# Altium footprint library PcbLib1.PcbLib: 10 footprints
Each footprint in its own frame and in the unit in brackets; x right, y up, seen from the top. Pads: shape width x height; smd on the part's side, far side on the other; paste and mask are expansions set on the pad; w line width, h text height; cw(c..) or ccw(c..) is an arc to the next point about the centre after c.
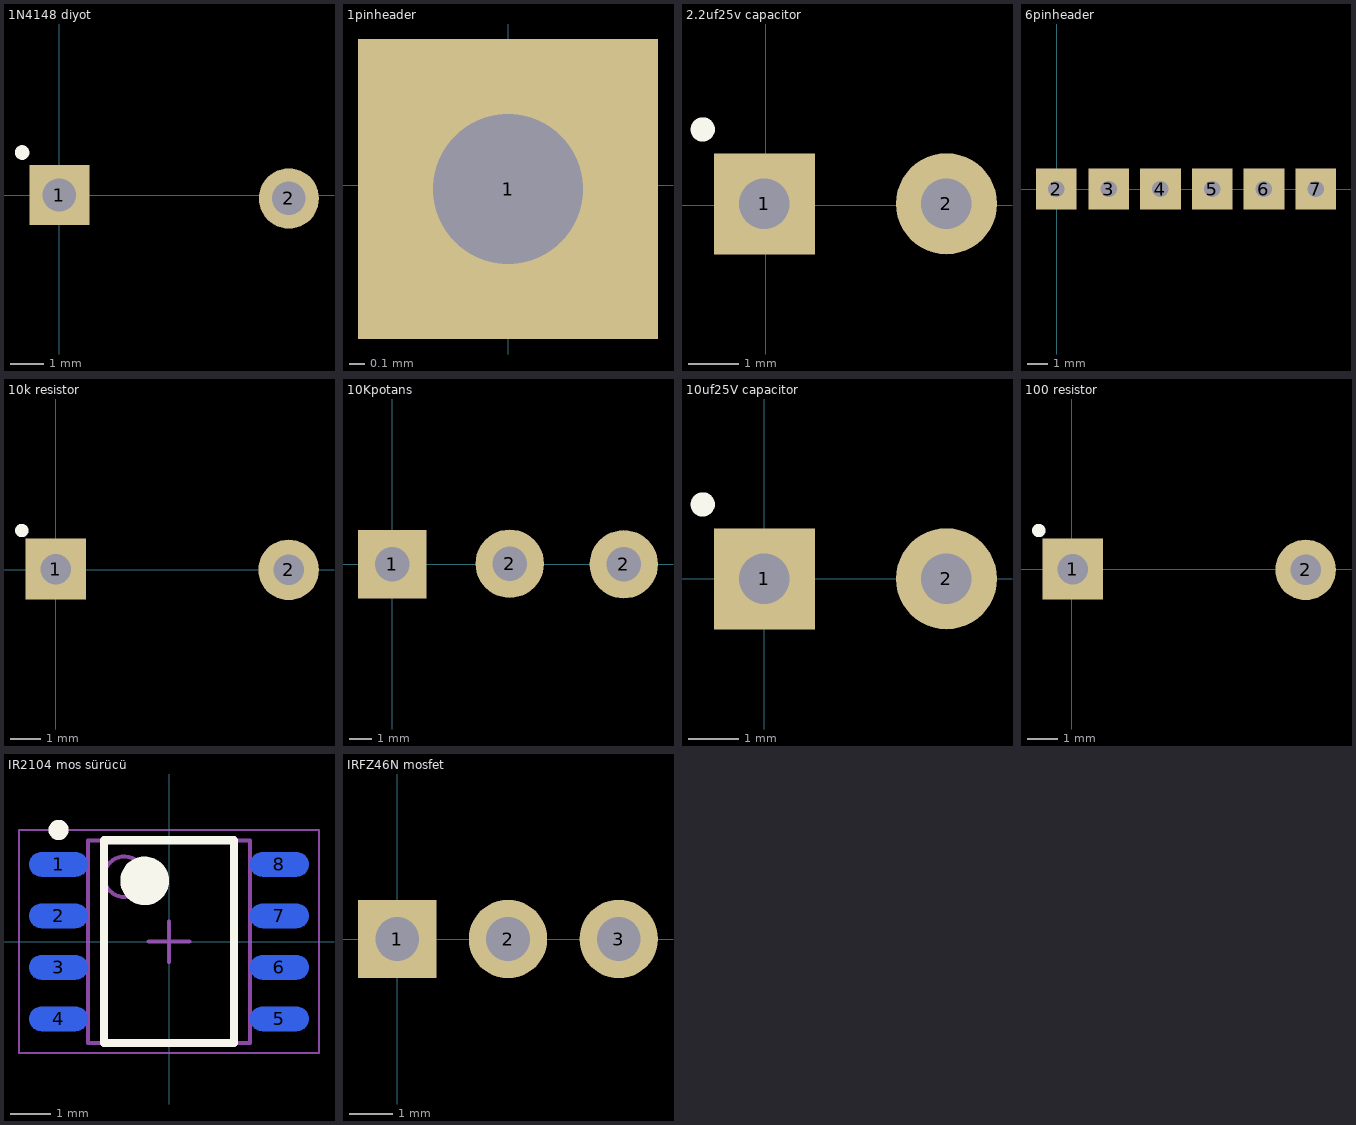
[diagram p0: the footprints below, top view; thin cyan lines are the x and y axes]

## 1N4148 diyot [mm]
pads (2):
  rect 1.8x1.8 hole 1 mask+0.05: 1(0,0)
  round 1.8 hole 1 mask+0.05: 2(6.858,-0.102)
Top Overlay:
  circle w0.254: c-1.118,1.27 r0.092
3D body "User Library-1n4148-1.STEP": height 2, standoff -4.5, extent -0.219,-1.152 7.281,0.848

## 1pinheader [mm]
pads (1):
  rect 2x2 hole 1 square: 1(0,-0.025)
3D body "User Library-Header_Male_1Pin.STEP": height 8.64, standoff -2.9, extent -1.27,-1.27 1.27,1.22

## 2.2uf25v capacitor [mm]
pads (2):
  rect 2x2 hole 1 paste+0 mask+0.05: 1(-0.025,0.025)
  round 2 hole 1 paste+0 mask+0.05: 2(3.581,0.025)
Top Overlay:
  circle w0.254: c-1.245,1.499 r0.114
Mechanical 1:
  text "5 x 11 x 5mm" at 4.216,-25.324 h1.52
3D body "User Library-Cap electro 8x11_5x3_5mm.STEP": height 12.53, standoff -2.98, extent -2.247,-4.076 5.804,3.975

## 6pinheader [mm]
pads (6):
  rect 2x2 hole 0.8 square: 2(-0.025,0) 3(2.54,0) 4(5.08,0) 5(7.62,0) 6(10.16,0) 7(12.7,0)
3D body "User Library-Header_Male_6Pin.STEP": height 8.54, standoff -3, extent -1.27,-1.245 13.97,1.245

## 10k resistor [mm]
pads (2):
  rect 2x2 hole 1 mask+0.05: 1(0,0.025)
  round 2 hole 1 mask+0.05: 2(7.671,0)
Top Overlay:
  circle w0.254: c-1.118,1.295 r0.092
3D body "CircuitWorks-RESISTOR 7_62MM DIP.STEP": height 2, standoff -2, extent -0.189,-1.051 7.911,0.949

## 10Kpotans [mm]
pads (3):
  rect 3x3 hole 1.5 paste+0 mask+0.05: 1(0,0)
  round 3 hole 1.5 paste+0 mask+0.05: 2(5.156,0.025) 2(10.16,0)
3D body "User Library-Potentiometer.STEP": height 21.38, standoff -3.56, extent -3.276,-18.669 13.488,5.461

## 10uf25V capacitor [mm]
pads (2):
  rect 2x2 hole 1 paste+0 mask+0.05: 1(0,0)
  round 2 hole 1 paste+0 mask+0.05: 2(3.607,0)
Top Overlay:
  circle w0.254: c-1.219,1.473 r0.114
3D body "User Library-Cap electro 8x11_5x3_5mm.STEP": height 12.53, standoff -2.98, extent -2.222,-4.101 5.829,3.949

## 100 resistor [mm]
pads (2):
  rect 2x2 hole 1 mask+0.05: 1(0.025,0)
  round 2 hole 1 mask+0.05: 2(7.696,-0.025)
Top Overlay:
  circle w0.254: c-1.092,1.27 r0.092
3D body "CircuitWorks-RESISTOR 7_62MM DIP.STEP": height 2, standoff -2, extent -0.164,-1.076 7.936,0.924

## IR2104 mos sürücü [mm] "SOIC, 8-Leads, Body 4,90x3,90mm, Pitch 1,27mm, IPC Medium Density"
height 1.75
pads (8):
  oval 1.45x0.6 smd far side: 1(-2.725,1.905) 2(-2.725,0.635) 3(-2.725,-0.635) 4(-2.725,-1.905) 5(2.725,-1.905) 6(2.725,-0.635) 7(2.725,0.635) 8(2.725,1.905)
Top Overlay:
  circle w0.6: c-0.6,1.5 r0.3
  circle w0.25: c-2.725,2.755 r0.125
  lines w0.2: -1.6,-2.5 1.6,-2.5 1.6,2.5 -1.6,2.5 -1.6,-2.5
Mechanical 13:
  circle w0.1: c-1.1,1.6 r0.5
  lines w0.1: -2,-2.5 2,-2.5 2,2.5 -2,2.5 -2,-2.5
Mechanical 15:
  lines w0.05: -3.7,-2.75 3.7,-2.75 3.7,2.75 -3.7,2.75 -3.7,-2.75
  lines w0.1: -0.5,0 0.5,0 ; 0,-0.5 0,0.5
3D body "IR2104.step": height 1.35, standoff -0.4, extent -3,-2.5 3,2.5

## IRFZ46N mosfet [mm]
pads (3):
  rect 1.8x1.8 hole 1: 1(0,0)
  round 1.8 hole 1: 2(2.54,0) 3(5.08,0)
3D body "User Library-IRFZ46N Transistors MOSFET N-Channel TO-220AB.STEP": height 25.36, standoff -7.52, extent -2.54,-1.524 7.62,2.681